# Altium integrated library LTC1448.IntLib: 1 symbol
Pins are listed as number, name and electrical type; pins without a type are passive.

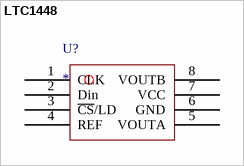
[diagram p0: symbol LTC1448]

## LTC1448
designator U?
footprint LTC1448(SOIC127P600X175-8N) (SOIC, 8-Leads, Body 4.90x3.90mm, Pitch 1.27mm, IPC Medium Density)
pins: 1 CLK, 2 Din, 3 ~{CS}/LD, 4 REF, 5 VOUTA, 6 GND, 7 VCC, 8 VOUTB